# Altium footprint library PCB-edited(3)-edited.PcbLib: 28 footprints (part 2 of 2)
Each footprint in its own frame and in the unit in brackets; x right, y up, seen from the top. Pads: shape width x height; smd on the part's side, far side on the other; paste and mask are expansions set on the pad; w line width, h text height; cw(c..) or ccw(c..) is an arc to the next point about the centre after c.
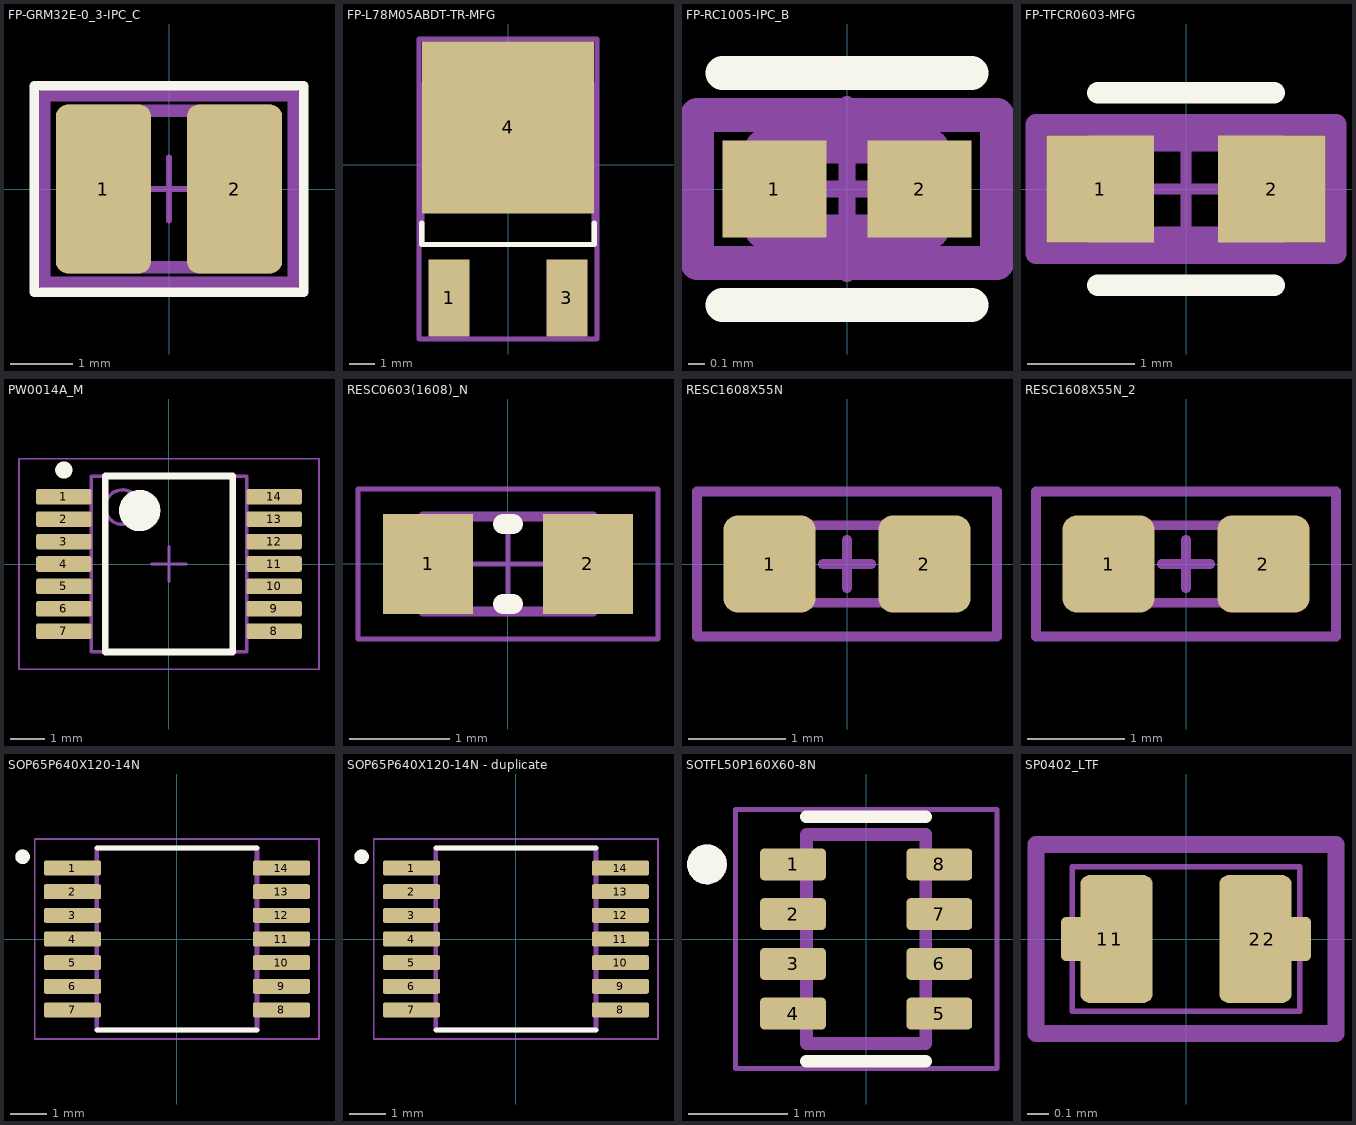
[diagram p1: the footprints below, top view; thin cyan lines are the x and y axes]

## FP-GRM32E-0_3-IPC_C [mil]
height 23.62
pads (2):
  rrect25% 60x106.46 smd paste+0 mask+0: 1(-41.36,0) 2(41.36,0)
Top Overlay:
  lines w6: -85,-65 85,-65 85,65 -85,65 -85,-65
Top Assembly:
  lines w7.87: -78.82,-59.06 78.82,-59.06 78.82,59.06 -78.82,59.06 -78.82,-59.06 ; -62.99,-49.21 -62.99,49.21 62.99,49.21 62.99,-49.21 -62.99,-49.21
  text ".Designator" at 0,7.39 h39.37
Top Component Center:
  lines w3.94: -19.68,0 19.68,0 ; 0,-19.68 0,19.68
3D body "Cap_Murata_GRM32ER60G337ME05L_eec.STEP": height 110.35, standoff 0, extent -62.99,-49.21 62.99,49.21

## FP-L78M05ABDT-TR-MFG [mm]
height 0.6
pads (3):
  rect 1.6x3 smd paste+0 mask+0: 1(-2.3,-5.193) 3(2.3,-5.193)
  rect 6.7x6.7 smd paste+0 mask+0: 4(0,1.458)
Top Overlay:
  lines w0.2: -3.365,-2.268 -3.365,-3.11 3.365,-3.11 3.365,-2.268
Top 3D Body:
  lines w0.2: -3.365,-3.11 3.365,-3.11 3.365,3.11 -3.365,3.11 -3.365,-3.11
Top Courtyard:
  lines w0.2: -3.465,-6.793 3.465,-6.793 3.465,4.908 -3.465,4.908 -3.465,-6.793
Top Assembly:
  lines w0.2: -3.465,-6.793 3.465,-6.793 3.465,4.908 -3.465,4.908 -3.465,-6.793
  text ".Designator" at 0,-0.943 h1
Top Component Center:
  lines w0.1: -0.5,0 0.5,0 ; 0,-0.5 0,0.5
3D body "IC_STMicroelectronics_L78M05ABDT-TR_eec.STEP": height 0.25, standoff 0, extent -3.465,-6.793 3.465,4.908

## FP-RC1005-IPC_B [mm]
height 0.6
pads (2):
  rect 0.615x0.572 smd paste+0 mask+0: 1(-0.429,0) 2(0.429,0)
Top Overlay:
  lines w0.2: -0.736,-0.686 0.736,-0.686 ; -0.736,0.686 0.736,0.686
Top 3D Body:
  lines w0.2: -0.5,-0.25 0.5,-0.25 0.5,0.25 -0.5,0.25 -0.5,-0.25
Top Courtyard:
  lines w0.2: -0.886,-0.436 0.886,-0.436 0.886,0.436 -0.886,0.436 -0.886,-0.436
Top Assembly:
  lines w0.2: -0.886,-0.436 0.886,-0.436 0.886,0.436 -0.886,0.436 -0.886,-0.436
  text ".Designator" at 0,0.188 h1
Top Component Center:
  lines w0.1: -0.5,0 0.5,0 ; 0,-0.5 0,0.5
3D body "Res_Samsung_RC1005F2944CS_eec.STEP": height 0.25, standoff 0, extent -0.886,-0.436 0.886,0.436

## FP-TFCR0603-MFG [mm]
height 0.6
pads (2):
  rect 1x1 smd paste+0 mask+0: 1(-0.8,0) 2(0.8,0)
Top Overlay:
  lines w0.2: -0.825,-0.9 0.825,-0.9 ; -0.825,0.9 0.825,0.9
Top 3D Body:
  lines w0.2: -0.825,-0.45 -0.825,0.45 0.825,0.45 0.825,-0.45 -0.825,-0.45
Top Courtyard:
  lines w0.2: -1.4,-0.6 -1.4,0.6 1.4,0.6 1.4,-0.6 -1.4,-0.6
Top Assembly:
  lines w0.2: -1.4,-0.6 -1.4,0.6 1.4,0.6 1.4,-0.6 -1.4,-0.6
  text ".Designator" at 0,0.188 h1
Top Component Center:
  lines w0.1: -0.5,0 0.5,0 ; 0,-0.5 0,0.5
3D body "Res_Venkel_TFCR0603-10W-K-5R76FT_eec.STEP": height 0.25, standoff 0, extent -1.4,-0.6 1.4,0.6

## PW0014A_M [mm] "SOP, 14-Leads, Body 5.1x4.5mm, Pitch 0.65mm, IPC Low Density"
height 1.2
pads (14):
  rrect22% 1.6x0.45 smd: 1(-3.05,1.95) 2(-3.05,1.3) 3(-3.05,0.65) 4(-3.05,0) 5(-3.05,-0.65) 6(-3.05,-1.3) 7(-3.05,-1.95) 8(3.05,-1.95) 9(3.05,-1.3) 10(3.05,-0.65) 11(3.05,0) 12(3.05,0.65) 13(3.05,1.3) 14(3.05,1.95)
Top Overlay:
  circle w0.6: c-0.85,1.55 r0.3
  circle w0.25: c-3.05,2.725 r0.125
  lines w0.2: -1.85,-2.55 1.85,-2.55 1.85,2.55 -1.85,2.55 -1.85,-2.55
Top Courtyard:
  lines w0.05: -4.35,-3.05 4.35,-3.05 4.35,3.05 -4.35,3.05 -4.35,-3.05
  lines w0.1: -0.5,0 0.5,0 ; 0,-0.5 0,0.5
Top Assembly:
  circle w0.1: c-1.35,1.65 r0.5
  lines w0.1: -2.25,-2.55 2.25,-2.55 2.25,2.55 -2.25,2.55 -2.25,-2.55
  text ".Designator" at -1.524,-0.508 h1.02
3D body "PW0014AakaMTC14.stp": height 1, standoff 0, extent -3.21,-2.5 3.21,2.5

## RESC0603(1608)_N [mm] "Chip Resistor, Body 1.6x0.8mm, IPC Medium Density"
height 0.6
pads (2):
  rect 0.9x1 smd: 1(-0.8,0) 2(0.8,0)
Top Overlay:
  lines w0.2: -0.05,-0.4 0.05,-0.4 ; -0.05,0.4 0.05,0.4
Top Courtyard:
  lines w0.05: -0.475,0 0.475,0 ; 0,-0.475 0,0.475 ; -1.5,-0.75 -1.5,0.75 1.5,0.75 1.5,-0.75 -1.5,-0.75
Top Assembly:
  lines w0.1: -0.85,-0.475 -0.85,0.475 0.85,0.475 0.85,-0.475 -0.85,-0.475
3D body: height 0.6, standoff 0, extent 0.581,-0.474 0.85,0.475
3D body: height 0.6, standoff 0, extent -0.58,-0.474 0.581,0.475
3D body: height 0.6, standoff 0, extent -0.849,-0.474 -0.58,0.475

## RESC1608X55N [mm] "0603 Chip Resistor"
height 0.55
pads (2):
  rrect30% 0.95x1 smd: 1(-0.8,0) 2(0.8,0)
Top Courtyard:
  lines w0.102: -1.55,-0.75 -1.55,0.75 1.55,0.75 1.55,-0.75 -1.55,-0.75
Top Assembly:
  lines w0.102: -0.8,-0.4 -0.8,0.4 0.8,0.4 0.8,-0.4 -0.8,-0.4
  text ".Designator" at -0.559,-0.229 h0.76
Top Component Center:
  lines w0.102: -0.25,0 0.25,0 ; 0,-0.25 0,0.25
3D body: height 0.55, standoff 0, extent -0.45,-0.4 0.45,0.4
3D body: height 0.55, standoff 0, extent 0.45,-0.4 0.8,0.4
3D body: height 0.55, standoff 0, extent -0.8,-0.4 -0.45,0.4

## RESC1608X55N_2 [mm]
pads (2):
  rrect30% 0.95x1 smd: 1(-0.8,0) 2(0.8,0)
Top Courtyard:
  lines w0.102: -1.55,-0.75 -1.55,0.75 1.55,0.75 1.55,-0.75 -1.55,-0.75
Top Assembly:
  lines w0.102: -0.8,-0.4 -0.8,0.4 0.8,0.4 0.8,-0.4 -0.8,-0.4
  text ".Designator" at -0.559,-0.229 h0.76
Top Component Center:
  lines w0.102: -0.25,0 0.25,0 ; 0,-0.25 0,0.25

## SOP65P640X120-14N [mm]
height 0.6
pads (14):
  rrect25% 1.57x0.41 smd: 1(-2.87,1.95) 2(-2.87,1.3) 3(-2.87,0.65) 4(-2.87,0) 5(-2.87,-0.65) 6(-2.87,-1.3) 7(-2.87,-1.95) 8(2.87,-1.95) 9(2.87,-1.3) 10(2.87,-0.65) 11(2.87,0) 12(2.87,0.65) 13(2.87,1.3) 14(2.87,1.95)
Top Overlay:
  circle w0.2: c-4.24,2.26 r0.1
  lines w0.127: -2.2,-2.5 2.2,-2.5 ; -2.2,2.5 2.2,2.5
Top Courtyard:
  lines w0.05: -3.905,-2.75 -3.905,2.75 3.905,2.75 3.905,-2.75 -3.905,-2.75
Top Assembly:
  circle w0.2: c-4.24,2.26 r0.1
  lines w0.127: -2.2,-2.5 -2.2,2.5 2.2,2.5 2.2,-2.5 -2.2,-2.5
3D body "step_temp.STEP": height 1.2, standoff 0, extent -3.2,-2.5 3.2,2.5

## SOP65P640X120-14N - duplicate [mm]
pads (14):
  rrect25% 1.57x0.41 smd: 1(-2.87,1.95) 2(-2.87,1.3) 3(-2.87,0.65) 4(-2.87,0) 5(-2.87,-0.65) 6(-2.87,-1.3) 7(-2.87,-1.95) 8(2.87,-1.95) 9(2.87,-1.3) 10(2.87,-0.65) 11(2.87,0) 12(2.87,0.65) 13(2.87,1.3) 14(2.87,1.95)
Top Overlay:
  circle w0.2: c-4.24,2.26 r0.1
  lines w0.127: -2.2,-2.5 2.2,-2.5 ; -2.2,2.5 2.2,2.5
Mechanical 13:
  circle w0.2: c-4.24,2.26 r0.1
  lines w0.127: -2.2,-2.5 2.2,-2.5 2.2,2.5 -2.2,2.5 -2.2,-2.5
Mechanical 15:
  lines w0.05: -3.905,-2.75 3.905,-2.75 3.905,2.75 -3.905,2.75 -3.905,-2.75
3D body "step_temp.STEP": height 1.2, standoff 0, extent -3.2,-2.5 3.2,2.5

## SOTFL50P160X60-8N [mm]
height 0.6
pads (8):
  rrect25% 0.66x0.32 smd: 1(-0.735,0.75) 2(-0.735,0.25) 3(-0.735,-0.25) 4(-0.735,-0.75) 5(0.735,-0.75) 6(0.735,-0.25) 7(0.735,0.25) 8(0.735,0.75)
Top Overlay:
  circle w0.2: c-1.6,0.75 r0.1
  lines w0.127: -0.6,-1.23 0.6,-1.23 ; -0.6,1.23 0.6,1.23
Top Courtyard:
  lines w0.05: -1.315,-1.3 1.315,-1.3 1.315,1.3 -1.315,1.3 -1.315,-1.3
Top Assembly:
  circle w0.2: c-1.6,0.75 r0.1
  lines w0.127: -0.6,-1.05 0.6,-1.05 0.6,1.05 -0.6,1.05 -0.6,-1.05
3D body "step_temp.STEP": height 0.6, standoff 0, extent -0.8,-1.05 0.8,1.05

## SP0402_LTF [mil]
pads (4):
  rrect25% 15x8 smd paste+0 mask-1: 1(-15,0) 2(15,0)
  rrect25% 13x23 smd paste+0 mask-1: 1(-12.5,0) 2(12.5,0)
Top Courtyard:
  lines w3: -27,-17 -27,17 27,17 27,-17 -27,-17
Mechanical 13:
  lines w1: -20.5,-13 -20.5,13 20.5,13 20.5,-13 -20.5,-13
3D body "SP0402_LTF.step": height 22.09, standoff 0, extent -20.51,-12.99 20.51,12.99